# EAGLE library part PIC12F1840 (library microchip-special)
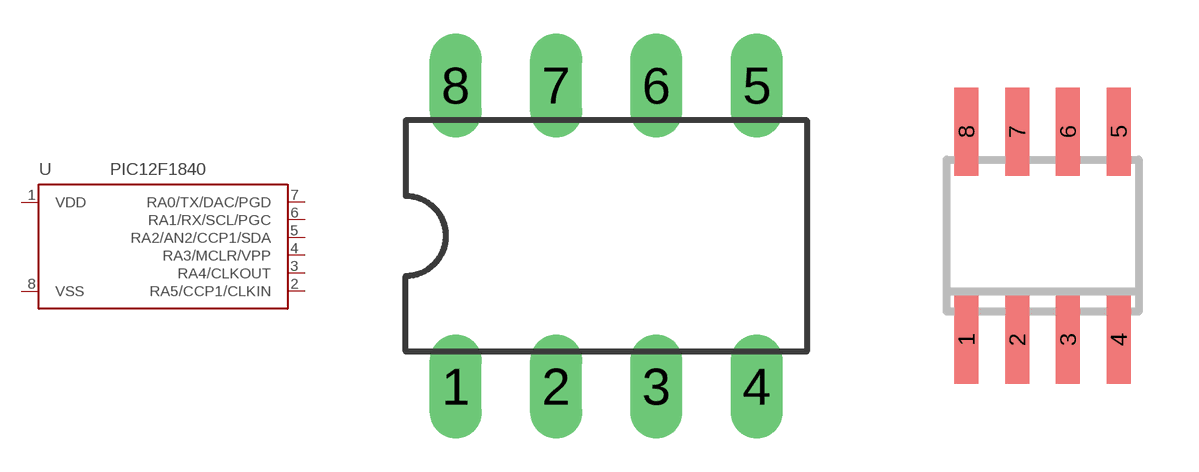
[diagram p14: symbol with the pads of DIL08; footprints DIL08, SO08]

Designator prefix -

## PIC12F1840P  [DIL08]
1  VDD  pwr
2  RA5/CCP1/CLKIN
3  RA4/CLKOUT
4  RA3/MCLR/VPP  in
5  RA2/AN2/CCP1/SDA
6  RA1/RX/SCL/PGC
7  RA0/TX/DAC/PGD
8  VSS  pwr

## PIC12F1840SN  [SO08]
Pads as for DIL08

## Footprint DIL08 (pad centres in mm)
Dual In Line Package
drill 0.813 long: 1 -3.81,-3.81; 2 -1.27,-3.81; 3 1.27,-3.81; 4 3.81,-3.81; 5 3.81,3.81; 6 1.27,3.81; 7 -1.27,3.81; 8 -3.81,3.81

## Footprint SO08 (pad centres in mm)
SMALL OUTLINE INTEGRATED CIRCUIT body 3.9 mm/JEDEC MS-012AA
smd 0.6 x 2.2: 1 -1.905,-2.6; 2 -0.635,-2.6; 3 0.635,-2.6; 4 1.905,-2.6; 5 1.905,2.6; 6 0.635,2.6; 7 -0.635,2.6; 8 -1.905,2.6